# EAGLE library part M40 (library custom-connectors)
40-Way Connector
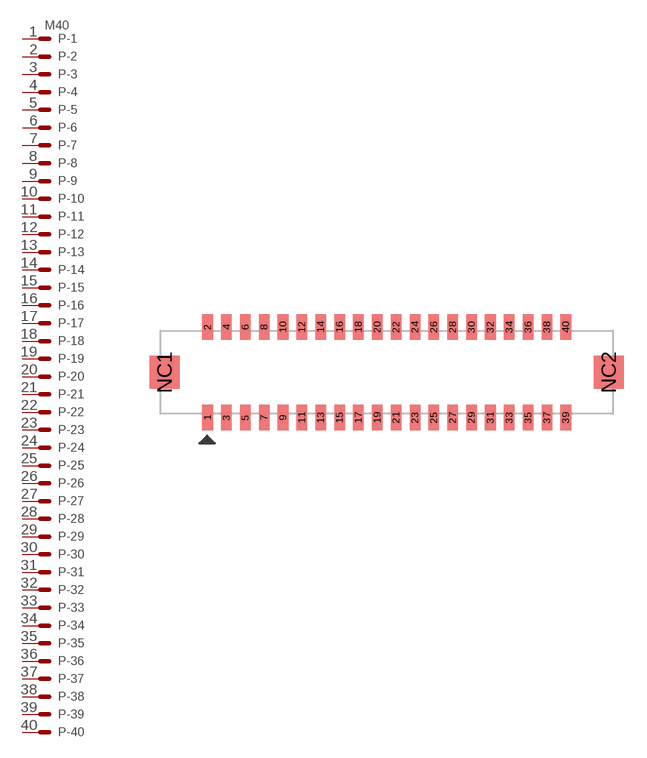
[diagram p1: symbol with the pads of DF13A-40DP-1.25V; footprint DF13A-40DP-1.25V]

Designator prefix P; gates -1=MV -2=M -3=M -4=M -5=M -6=M -7=M -8=M -9=M -10=M -11=M -12=M -13=M -14=M -15=M -16=M -17=M -18=M -19=M -20=M -21=M -22=M -23=M -24=M -25=M -26=M -27=M -28=M -29=M -30=M -31=M -32=M -33=M -34=M -35=M -36=M -37=M -38=M -39=M -40=M

## M40_DF13 (DIGI-KEY: H10166-ND; MOUSER: 798-DF13A40DP125V55)  [DF13A-40DP-1.25V]
1  -1:S  pas
2  -2:S  pas
3  -3:S  pas
4  -4:S  pas
5  -5:S  pas
6  -6:S  pas
7  -7:S  pas
8  -8:S  pas
9  -9:S  pas
10  -10:S  pas
11  -11:S  pas
12  -12:S  pas
13  -13:S  pas
14  -14:S  pas
15  -15:S  pas
16  -16:S  pas
17  -17:S  pas
18  -18:S  pas
19  -19:S  pas
20  -20:S  pas
21  -21:S  pas
22  -22:S  pas
23  -23:S  pas
24  -24:S  pas
25  -25:S  pas
26  -26:S  pas
27  -27:S  pas
28  -28:S  pas
29  -29:S  pas
30  -30:S  pas
31  -31:S  pas
32  -32:S  pas
33  -33:S  pas
34  -34:S  pas
35  -35:S  pas
36  -36:S  pas
37  -37:S  pas
38  -38:S  pas
39  -39:S  pas
40  -40:S  pas

## Footprint DF13A-40DP-1.25V (pad centres in mm)
smd 0.7 x 1.7: 1 -11.875,-3; 2 -11.875,3; 3 -10.625,-3; 4 -10.625,3; 5 -9.375,-3; 6 -9.375,3; 7 -8.125,-3; 8 -8.125,3; 9 -6.875,-3; 10 -6.875,3; 11 -5.625,-3; 12 -5.625,3; 13 -4.375,-3; 14 -4.375,3; 15 -3.125,-3; 16 -3.125,3; 17 -1.875,-3; 18 -1.875,3; 19 -0.625,-3; 20 -0.625,3; 21 0.625,-3; 22 0.625,3; 23 1.875,-3; 24 1.875,3; 25 3.125,-3; 26 3.125,3; 27 4.375,-3; 28 4.375,3; 29 5.625,-3; 30 5.625,3; 31 6.875,-3; 32 6.875,3; 33 8.125,-3; 34 8.125,3; 35 9.375,-3; 36 9.375,3; 37 10.625,-3; 38 10.625,3; 39 11.875,-3; 40 11.875,3
smd 2 x 2.2: NC1 -14.725,0; NC2 14.725,0